# Altium footprint library 2EDF7275KXUMA1.PcbLib: 3 footprints
Each footprint in its own frame and in the unit in brackets; x right, y up, seen from the top. Pads: shape width x height; smd on the part's side, far side on the other; paste and mask are expansions set on the pad; w line width, h text height; cw(c..) or ccw(c..) is an arc to the next point about the centre after c.
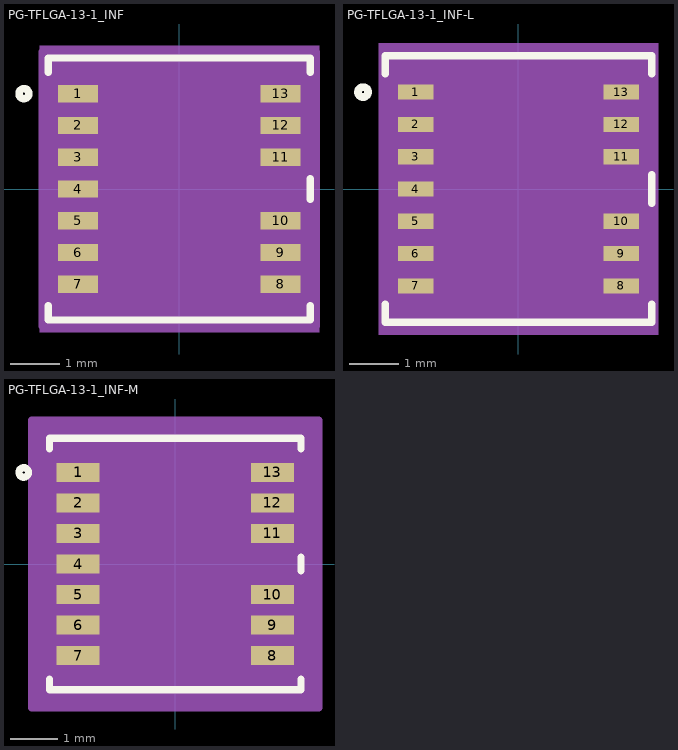
[diagram p0: the footprints below, top view; thin cyan lines are the x and y axes]

## PG-TFLGA-13-1_INF [mil]
pads (13):
  rect 32x14 smd paste+0 mask+0: 1(-81.5,76.77) 2(-81.5,51.18) 3(-81.5,25.59) 4(-81.5,0) 5(-81.5,-25.59) 6(-81.5,-51.18) 7(-81.5,-76.77) 8(81.5,-76.77) 9(81.5,-51.18) 10(81.5,-25.59) 11(81.5,25.59) 12(81.5,51.18) 13(81.5,76.77)
Top Overlay:
  circle w6: c-125.09,76.77 r4
  lines w6: -105.5,-94.15 -105.5,-105.5 105.5,-105.5 105.5,-94.15 ; -105.5,94.15 -105.5,105.5 105.5,105.5 105.5,94.15 ; 105.5,-8.22 105.5,8.22
Mechanical 5:
  region: 112.5,-115.5 -112.5,-115.5 -112.5,115.5 112.5,115.5
Mechanical 13:
  circle w0: c-65.5,76.77 r3
  lines w0: -12,100.5 ccw(c0,100.5) 12,100.5
  lines w1: -100.5,-100.5 100.5,-100.5 100.5,100.5 -100.5,100.5 -100.5,-100.5
Mechanical 15:
  region: -110.5,-93.77 -110.5,93.77 -110.5,110.5 110.5,110.5 110.5,93.77 110.5,-93.77 110.5,-110.5 -110.5,-110.5
  lines w6: -110.5,-93.77 -110.5,93.77 ; -110.5,-93.77 -110.5,-93.77 ; -110.5,-93.77 -110.5,-110.5 110.5,-110.5 110.5,-93.77 ; -110.5,93.77 -110.5,93.77 ; -110.5,93.77 -110.5,110.5 110.5,110.5 110.5,93.77 ; 110.5,-93.77 110.5,93.77 ; 110.5,-93.77 110.5,-93.77 ; 110.5,93.77 110.5,93.77
3D body "PG-TFLGA-13-1_INF.step": height 42.09, standoff 0, extent -100.51,-100.51 100.51,100.51

## PG-TFLGA-13-1_INF-L [mil]
pads (13):
  rect 28.06x12.03 smd paste+0 mask+0: 1(-81.5,76.77) 2(-81.5,51.18) 3(-81.5,25.59) 4(-81.5,0) 5(-81.5,-25.59) 6(-81.5,-51.18) 7(-81.5,-76.77) 8(81.5,-76.77) 9(81.5,-51.18) 10(81.5,-25.59) 11(81.5,25.59) 12(81.5,51.18) 13(81.5,76.77)
Top Overlay:
  circle w6: c-123.12,76.77 r4
  lines w6: -105.5,-91.29 -105.5,-105.5 105.5,-105.5 105.5,-91.29 ; -105.5,91.29 -105.5,105.5 105.5,105.5 105.5,91.29 ; 105.5,-11.08 105.5,11.08
Mechanical 5:
  region: 110.53,-115.5 -110.53,-115.5 -110.53,115.5 110.53,115.5
Mechanical 13:
  circle w0: c-67.47,76.77 r3
  lines w0: -12,100.5 ccw(c0,100.5) 12,100.5
  lines w1: -100.5,-100.5 100.5,-100.5 100.5,100.5 -100.5,100.5 -100.5,-100.5
Mechanical 15:
  region: -104.5,-86.79 -104.5,86.79 -104.5,104.5 104.5,104.5 104.5,86.79 104.5,-86.79 104.5,-104.5 -104.5,-104.5
  lines w6: -104.5,-86.79 -104.5,86.79 ; -104.5,-86.79 -104.5,-86.79 ; -104.5,-86.79 -104.5,-104.5 104.5,-104.5 104.5,-86.79 ; -104.5,86.79 -104.5,86.79 ; -104.5,86.79 -104.5,104.5 104.5,104.5 104.5,86.79 ; 104.5,-86.79 104.5,86.79 ; 104.5,-86.79 104.5,-86.79 ; 104.5,86.79 104.5,86.79
3D body "PG-TFLGA-13-1_INF.step": height 42.09, standoff 0, extent -100.51,-100.51 100.51,100.51

## PG-TFLGA-13-1_INF-M [mil]
pads (13):
  rect 35.94x15.97 smd paste+0 mask+0: 1(-81.5,76.77) 2(-81.5,51.18) 3(-81.5,25.59) 4(-81.5,0) 5(-81.5,-25.59) 6(-81.5,-51.18) 7(-81.5,-76.77) 8(81.5,-76.77) 9(81.5,-51.18) 10(81.5,-25.59) 11(81.5,25.59) 12(81.5,51.18) 13(81.5,76.77)
Top Overlay:
  circle w6: c-127.06,76.77 r4
  lines w6: -105.5,-96.38 -105.5,-105.5 105.5,-105.5 105.5,-96.38 ; -105.5,96.38 -105.5,105.5 105.5,105.5 105.5,96.38 ; 105.5,-5.98 105.5,5.98
Mechanical 5:
  region: 114.47,-115.5 -114.47,-115.5 -114.47,115.5 114.47,115.5
Mechanical 13:
  circle w0: c-63.53,76.77 r3
  lines w0: -12,100.5 ccw(c0,100.5) 12,100.5
  lines w1: -100.5,-100.5 100.5,-100.5 100.5,100.5 -100.5,100.5 -100.5,-100.5
Mechanical 15:
  region: -120.5,-104.76 -120.5,104.76 -120.5,120.5 120.5,120.5 120.5,104.76 120.5,-104.76 120.5,-120.5 -120.5,-120.5
  lines w6: -120.5,-104.76 -120.5,104.76 ; -120.5,-104.76 -120.5,-104.76 ; -120.5,-104.76 -120.5,-120.5 120.5,-120.5 120.5,-104.76 ; -120.5,104.76 -120.5,104.76 ; -120.5,104.76 -120.5,120.5 120.5,120.5 120.5,104.76 ; 120.5,-104.76 120.5,104.76 ; 120.5,-104.76 120.5,-104.76 ; 120.5,104.76 120.5,104.76
3D body "PG-TFLGA-13-1_INF.step": height 42.09, standoff 0, extent -100.51,-100.51 100.51,100.51